# Altium integrated library BD140.IntLib: 1 symbol
Pins are listed as number, name and electrical type; pins without a type are passive.

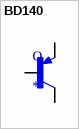
[diagram p0: symbol BD140]

## BD140
designator Q
Bipolar _BJT_ Transistor PNP 80V 1.5A 1.25W Through Hole SOT-32-3; MF: STMicroelectronics; MP: BD140; SnapEDA_Link: https://www.snapeda.com/parts/BD140/STMicroelectronics/view-part/4503197/?ref=snap; Value: *; Package: TO-126 STMicroelectronics; Price: None; Availability: Unavailable
footprint TO245P780X300X1364-3
pins: 1 E, 2 C, 3 B